# Altium footprint library Connector_Harting.PcbLib: 33 footprints (part 2 of 3)
Each footprint in its own frame and in the unit in brackets; x right, y up, seen from the top. Pads: shape width x height; smd on the part's side, far side on the other; paste and mask are expansions set on the pad; w line width, h text height; cw(c..) or ccw(c..) is an arc to the next point about the centre after c.
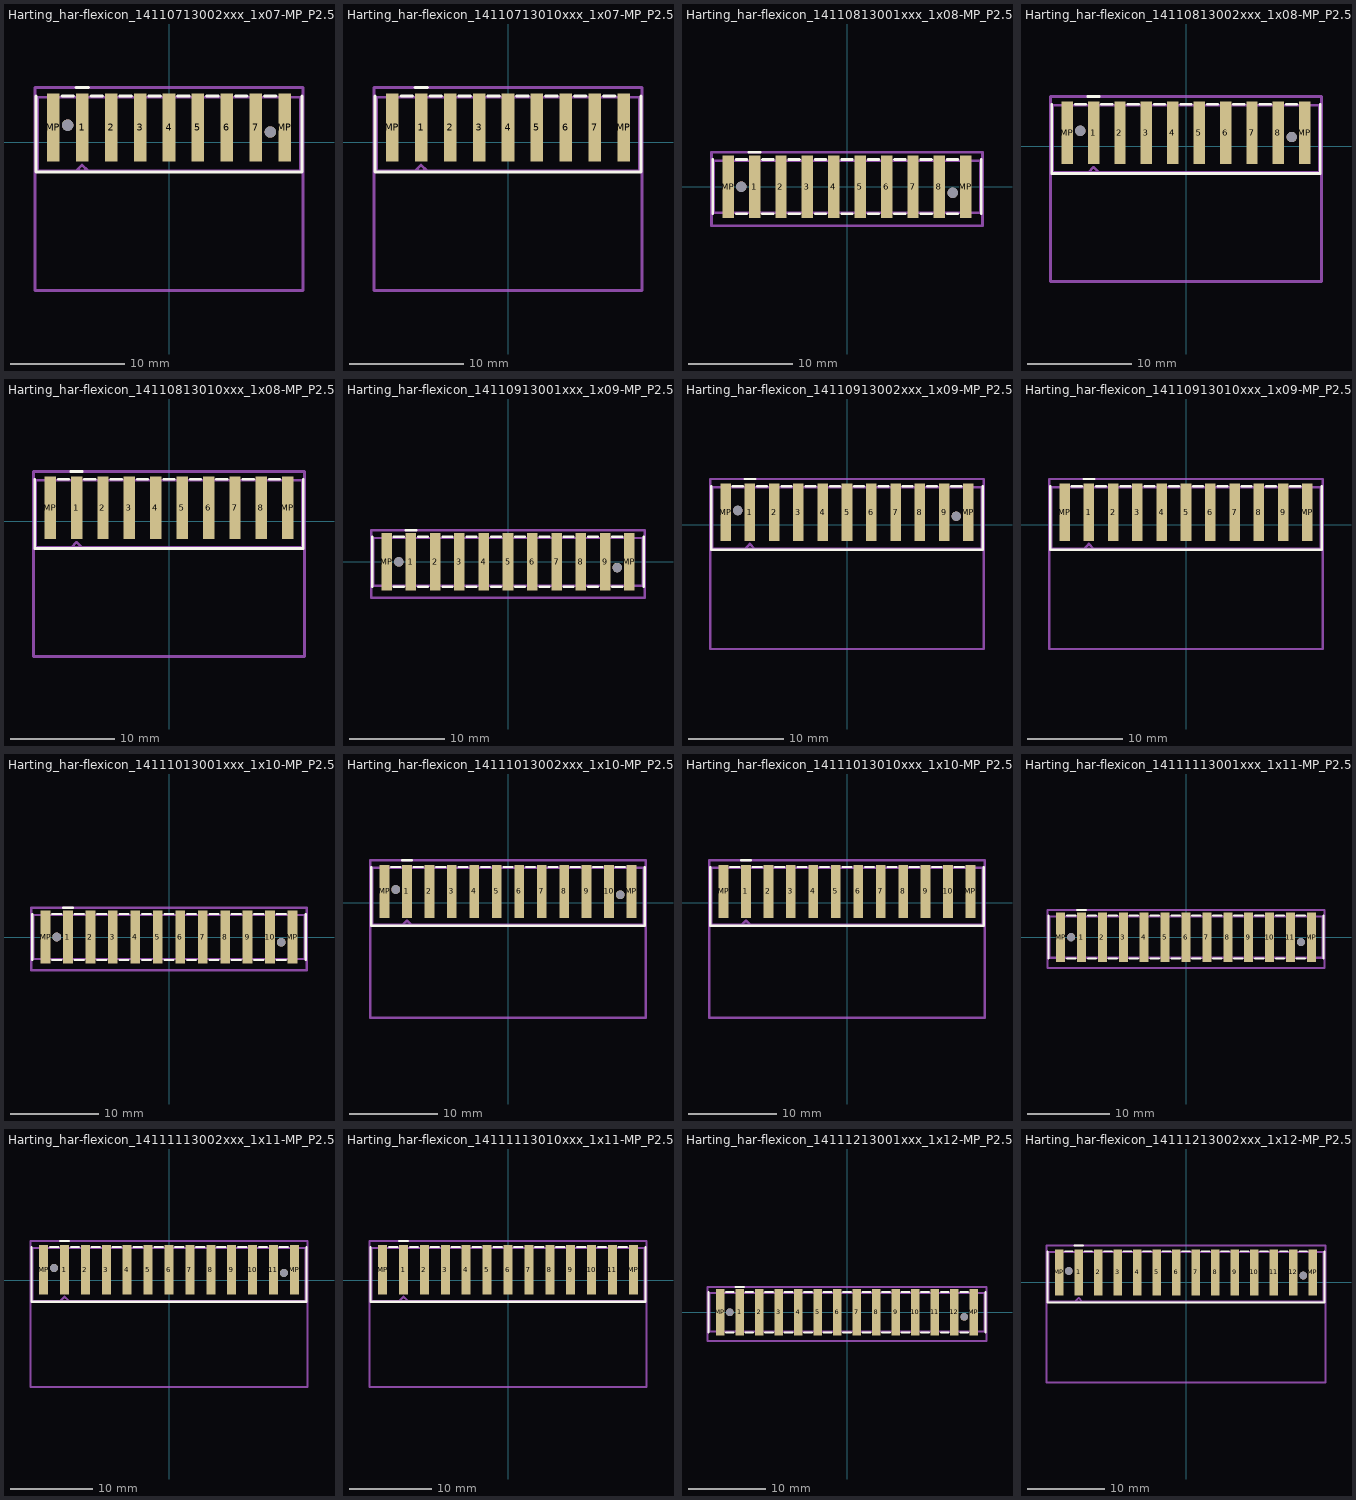
[diagram p1: the footprints below, top view; thin cyan lines are the x and y axes]

## Harting_har-flexicon_14110713002xxx_1x07-MP_P2.54mm_Horizontal [mm]
pads (11):
  rect 1.1x6 smd: 1(-7.62,1.3) 2(-5.08,1.3) 3(-2.54,1.3) 4(0,1.3) 5(2.54,1.3) 6(5.08,1.3) 7(7.62,1.3) MP(-10.16,1.3) MP(10.16,1.3)
  round 1 hole 1: Un1(-8.89,1.5) Un2(8.89,0.9)
F.SilkS:
  lines w0.254: -11.655,4.06 -11.655,-2.61 11.655,-2.61 11.655,4.06 ; -9.398,4.06 -8.382,4.06 ; -8.17,4.8 -7.07,4.8 ; -6.858,4.06 -5.842,4.06 ; -4.318,4.06 -3.302,4.06 ; -1.778,4.06 -0.762,4.06 ; 0.762,4.06 1.778,4.06 ; 3.302,4.06 4.318,4.06 ; 5.842,4.06 6.858,4.06 ; 8.382,4.06 9.398,4.06
Top Assembly:
  lines w0.254: -8.12,-2.5 -7.62,-2 -7.12,-2.5 ; -11.545,-2.5 11.545,-2.5 11.545,3.95 -11.545,3.95 -11.545,-2.5
  text "'.Designator'" at -4.047,0.46 h1
Top Courtyard:
  lines w0.254: -11.77,-13 11.77,-13 11.77,4.8 -11.77,4.8 -11.77,-13
Top Designator:
  text ".Designator" at -7.618,-4.608 h1.52

## Harting_har-flexicon_14110713010xxx_1x07-MP_P2.54mm_Horizontal [mm]
pads (9):
  rect 1.1x6 smd: 1(-7.62,1.3) 2(-5.08,1.3) 3(-2.54,1.3) 4(0,1.3) 5(2.54,1.3) 6(5.08,1.3) 7(7.62,1.3) MP(-10.16,1.3) MP(10.16,1.3)
F.SilkS:
  lines w0.254: -11.655,4.06 -11.655,-2.61 11.655,-2.61 11.655,4.06 ; -9.398,4.06 -8.382,4.06 ; -8.17,4.8 -7.07,4.8 ; -6.858,4.06 -5.842,4.06 ; -4.318,4.06 -3.302,4.06 ; -1.778,4.06 -0.762,4.06 ; 0.762,4.06 1.778,4.06 ; 3.302,4.06 4.318,4.06 ; 5.842,4.06 6.858,4.06 ; 8.382,4.06 9.398,4.06
Top Assembly:
  lines w0.254: -8.12,-2.5 -7.62,-2 -7.12,-2.5 ; -11.545,-2.5 11.545,-2.5 11.545,3.95 -11.545,3.95 -11.545,-2.5
  text "'.Designator'" at -4.047,0.46 h1
Top Courtyard:
  lines w0.254: -11.77,-13 11.77,-13 11.77,4.8 -11.77,4.8 -11.77,-13
Top Designator:
  text ".Designator" at -7.618,-4.608 h1.52

## Harting_har-flexicon_14110813001xxx_1x08-MP_P2.54mm_Vertical [mm]
pads (12):
  rect 1.1x6 smd: 1(-8.89,0) 2(-6.35,0) 3(-3.81,0) 4(-1.27,0) 5(1.27,0) 6(3.81,0) 7(6.35,0) 8(8.89,0) MP(-11.43,0) MP(11.43,0)
  round 1 hole 1: Un1(-10.16,0) Un2(10.16,-0.6)
F.SilkS:
  lines w0.254: -12.925,-2.61 -12.925,2.61 ; -10.668,-2.61 -9.652,-2.61 ; -10.668,2.61 -9.652,2.61 ; -9.44,3.3 -8.34,3.3 ; -8.128,-2.61 -7.112,-2.61 ; -8.128,2.61 -7.112,2.61 ; -5.588,-2.61 -4.572,-2.61 ; -5.588,2.61 -4.572,2.61 ; -3.048,-2.61 -2.032,-2.61 ; -3.048,2.61 -2.032,2.61 ; -0.508,-2.61 0.508,-2.61 ; -0.508,2.61 0.508,2.61 ; 2.032,-2.61 3.048,-2.61 ; 2.032,2.61 3.048,2.61 ; 4.572,-2.61 5.588,-2.61 ; 4.572,2.61 5.588,2.61 ; 7.112,-2.61 8.128,-2.61 ; 7.112,2.61 8.128,2.61 ; 9.652,-2.61 10.668,-2.61 ; 9.652,2.61 10.668,2.61 ; 12.925,-2.61 12.925,2.61
Top Assembly:
  lines w0.254: -9.39,-2.5 -8.89,-2 -8.39,-2.5 ; -12.815,-2.5 12.815,-2.5 12.815,2.5 -12.815,2.5 -12.815,-2.5
  text "'.Designator'" at -4.047,-0.84 h1
Top Courtyard:
  lines w0.254: -13.04,-3.75 13.04,-3.75 13.04,3.3 -13.04,3.3 -13.04,-3.75
Top Designator:
  text ".Designator" at -7.618,-0.733 h1.52

## Harting_har-flexicon_14110813002xxx_1x08-MP_P2.54mm_Horizontal [mm]
pads (12):
  rect 1.1x6 smd: 1(-8.89,1.3) 2(-6.35,1.3) 3(-3.81,1.3) 4(-1.27,1.3) 5(1.27,1.3) 6(3.81,1.3) 7(6.35,1.3) 8(8.89,1.3) MP(-11.43,1.3) MP(11.43,1.3)
  round 1 hole 1: Un1(-10.16,1.5) Un2(10.16,0.9)
F.SilkS:
  lines w0.254: -12.925,4.06 -12.925,-2.61 12.925,-2.61 12.925,4.06 ; -10.668,4.06 -9.652,4.06 ; -9.44,4.8 -8.34,4.8 ; -8.128,4.06 -7.112,4.06 ; -5.588,4.06 -4.572,4.06 ; -3.048,4.06 -2.032,4.06 ; -0.508,4.06 0.508,4.06 ; 2.032,4.06 3.048,4.06 ; 4.572,4.06 5.588,4.06 ; 7.112,4.06 8.128,4.06 ; 9.652,4.06 10.668,4.06
Top Assembly:
  lines w0.254: -9.39,-2.5 -8.89,-2 -8.39,-2.5 ; -12.815,-2.5 12.815,-2.5 12.815,3.95 -12.815,3.95 -12.815,-2.5
  text "'.Designator'" at -4.047,0.46 h1
Top Courtyard:
  lines w0.254: -13.04,-13 13.04,-13 13.04,4.8 -13.04,4.8 -13.04,-13
Top Designator:
  text ".Designator" at -7.618,-4.608 h1.52

## Harting_har-flexicon_14110813010xxx_1x08-MP_P2.54mm_Horizontal [mm]
pads (10):
  rect 1.1x6 smd: 1(-8.89,1.3) 2(-6.35,1.3) 3(-3.81,1.3) 4(-1.27,1.3) 5(1.27,1.3) 6(3.81,1.3) 7(6.35,1.3) 8(8.89,1.3) MP(-11.43,1.3) MP(11.43,1.3)
F.SilkS:
  lines w0.254: -12.925,4.06 -12.925,-2.61 12.925,-2.61 12.925,4.06 ; -10.668,4.06 -9.652,4.06 ; -9.44,4.8 -8.34,4.8 ; -8.128,4.06 -7.112,4.06 ; -5.588,4.06 -4.572,4.06 ; -3.048,4.06 -2.032,4.06 ; -0.508,4.06 0.508,4.06 ; 2.032,4.06 3.048,4.06 ; 4.572,4.06 5.588,4.06 ; 7.112,4.06 8.128,4.06 ; 9.652,4.06 10.668,4.06
Top Assembly:
  lines w0.254: -9.39,-2.5 -8.89,-2 -8.39,-2.5 ; -12.815,-2.5 12.815,-2.5 12.815,3.95 -12.815,3.95 -12.815,-2.5
  text "'.Designator'" at -4.047,0.46 h1
Top Courtyard:
  lines w0.254: -13.04,-13 13.04,-13 13.04,4.8 -13.04,4.8 -13.04,-13
Top Designator:
  text ".Designator" at -7.618,-4.608 h1.52

## Harting_har-flexicon_14110913001xxx_1x09-MP_P2.54mm_Vertical [mm]
pads (13):
  rect 1.1x6 smd: 1(-10.16,0) 2(-7.62,0) 3(-5.08,0) 4(-2.54,0) 5(0,0) 6(2.54,0) 7(5.08,0) 8(7.62,0) 9(10.16,0) MP(-12.7,0) MP(12.7,0)
  round 1 hole 1: Un1(-11.43,0) Un2(11.43,-0.6)
F.SilkS:
  lines w0.254: -14.195,-2.61 -14.195,2.61 ; -11.938,-2.61 -10.922,-2.61 ; -11.938,2.61 -10.922,2.61 ; -10.71,3.3 -9.61,3.3 ; -9.398,-2.61 -8.382,-2.61 ; -9.398,2.61 -8.382,2.61 ; -6.858,-2.61 -5.842,-2.61 ; -6.858,2.61 -5.842,2.61 ; -4.318,-2.61 -3.302,-2.61 ; -4.318,2.61 -3.302,2.61 ; -1.778,-2.61 -0.762,-2.61 ; -1.778,2.61 -0.762,2.61 ; 0.762,-2.61 1.778,-2.61 ; 0.762,2.61 1.778,2.61 ; 3.302,-2.61 4.318,-2.61 ; 3.302,2.61 4.318,2.61 ; 5.842,-2.61 6.858,-2.61 ; 5.842,2.61 6.858,2.61 ; 8.382,-2.61 9.398,-2.61 ; 8.382,2.61 9.398,2.61 ; 10.922,-2.61 11.938,-2.61 ; 10.922,2.61 11.938,2.61 ; 14.195,-2.61 14.195,2.61
Top Assembly:
  lines w0.254: -10.66,-2.5 -10.16,-2 -9.66,-2.5 ; -14.085,-2.5 14.085,-2.5 14.085,2.5 -14.085,2.5 -14.085,-2.5
  text "'.Designator'" at -4.047,-0.84 h1
Top Courtyard:
  lines w0.254: -14.31,-3.75 14.31,-3.75 14.31,3.3 -14.31,3.3 -14.31,-3.75
Top Designator:
  text ".Designator" at -7.618,-0.733 h1.52

## Harting_har-flexicon_14110913002xxx_1x09-MP_P2.54mm_Horizontal [mm]
pads (13):
  rect 1.1x6 smd: 1(-10.16,1.3) 2(-7.62,1.3) 3(-5.08,1.3) 4(-2.54,1.3) 5(0,1.3) 6(2.54,1.3) 7(5.08,1.3) 8(7.62,1.3) 9(10.16,1.3) MP(-12.7,1.3) MP(12.7,1.3)
  round 1 hole 1: Un1(-11.43,1.5) Un2(11.43,0.9)
F.SilkS:
  lines w0.254: -14.195,4.06 -14.195,-2.61 14.195,-2.61 14.195,4.06 ; -11.938,4.06 -10.922,4.06 ; -10.71,4.8 -9.61,4.8 ; -9.398,4.06 -8.382,4.06 ; -6.858,4.06 -5.842,4.06 ; -4.318,4.06 -3.302,4.06 ; -1.778,4.06 -0.762,4.06 ; 0.762,4.06 1.778,4.06 ; 3.302,4.06 4.318,4.06 ; 5.842,4.06 6.858,4.06 ; 8.382,4.06 9.398,4.06 ; 10.922,4.06 11.938,4.06
Top Assembly:
  lines w0.254: -10.66,-2.5 -10.16,-2 -9.66,-2.5 ; -14.085,-2.5 14.085,-2.5 14.085,3.95 -14.085,3.95 -14.085,-2.5
  text "'.Designator'" at -4.047,0.46 h1
Top Courtyard:
  lines w0.254: -14.31,-13 14.31,-13 14.31,4.8 -14.31,4.8 -14.31,-13
Top Designator:
  text ".Designator" at -7.618,-4.608 h1.52

## Harting_har-flexicon_14110913010xxx_1x09-MP_P2.54mm_Horizontal [mm]
pads (11):
  rect 1.1x6 smd: 1(-10.16,1.3) 2(-7.62,1.3) 3(-5.08,1.3) 4(-2.54,1.3) 5(0,1.3) 6(2.54,1.3) 7(5.08,1.3) 8(7.62,1.3) 9(10.16,1.3) MP(-12.7,1.3) MP(12.7,1.3)
F.SilkS:
  lines w0.254: -14.195,4.06 -14.195,-2.61 14.195,-2.61 14.195,4.06 ; -11.938,4.06 -10.922,4.06 ; -10.71,4.8 -9.61,4.8 ; -9.398,4.06 -8.382,4.06 ; -6.858,4.06 -5.842,4.06 ; -4.318,4.06 -3.302,4.06 ; -1.778,4.06 -0.762,4.06 ; 0.762,4.06 1.778,4.06 ; 3.302,4.06 4.318,4.06 ; 5.842,4.06 6.858,4.06 ; 8.382,4.06 9.398,4.06 ; 10.922,4.06 11.938,4.06
Top Assembly:
  lines w0.254: -10.66,-2.5 -10.16,-2 -9.66,-2.5 ; -14.085,-2.5 14.085,-2.5 14.085,3.95 -14.085,3.95 -14.085,-2.5
  text "'.Designator'" at -4.047,0.46 h1
Top Courtyard:
  lines w0.254: -14.31,-13 14.31,-13 14.31,4.8 -14.31,4.8 -14.31,-13
Top Designator:
  text ".Designator" at -7.618,-4.608 h1.52

## Harting_har-flexicon_14111013001xxx_1x10-MP_P2.54mm_Vertical [mm]
pads (14):
  rect 1.1x6 smd: 1(-11.43,0) 2(-8.89,0) 3(-6.35,0) 4(-3.81,0) 5(-1.27,0) 6(1.27,0) 7(3.81,0) 8(6.35,0) 9(8.89,0) 10(11.43,0) MP(-13.97,0) MP(13.97,0)
  round 1 hole 1: Un1(-12.7,0) Un2(12.7,-0.6)
F.SilkS:
  lines w0.254: -15.465,-2.61 -15.465,2.61 ; -13.208,-2.61 -12.192,-2.61 ; -13.208,2.61 -12.192,2.61 ; -11.98,3.3 -10.88,3.3 ; -10.668,-2.61 -9.652,-2.61 ; -10.668,2.61 -9.652,2.61 ; -8.128,-2.61 -7.112,-2.61 ; -8.128,2.61 -7.112,2.61 ; -5.588,-2.61 -4.572,-2.61 ; -5.588,2.61 -4.572,2.61 ; -3.048,-2.61 -2.032,-2.61 ; -3.048,2.61 -2.032,2.61 ; -0.508,-2.61 0.508,-2.61 ; -0.508,2.61 0.508,2.61 ; 2.032,-2.61 3.048,-2.61 ; 2.032,2.61 3.048,2.61 ; 4.572,-2.61 5.588,-2.61 ; 4.572,2.61 5.588,2.61 ; 7.112,-2.61 8.128,-2.61 ; 7.112,2.61 8.128,2.61 ; 9.652,-2.61 10.668,-2.61 ; 9.652,2.61 10.668,2.61 ; 12.192,-2.61 13.208,-2.61 ; 12.192,2.61 13.208,2.61 ; 15.465,-2.61 15.465,2.61
Top Assembly:
  lines w0.254: -11.93,-2.5 -11.43,-2 -10.93,-2.5 ; -15.355,-2.5 15.355,-2.5 15.355,2.5 -15.355,2.5 -15.355,-2.5
  text "'.Designator'" at -4.047,-0.84 h1
Top Courtyard:
  lines w0.254: -15.58,-3.75 15.58,-3.75 15.58,3.3 -15.58,3.3 -15.58,-3.75
Top Designator:
  text ".Designator" at -7.618,-0.733 h1.52

## Harting_har-flexicon_14111013002xxx_1x10-MP_P2.54mm_Horizontal [mm]
pads (14):
  rect 1.1x6 smd: 1(-11.43,1.3) 2(-8.89,1.3) 3(-6.35,1.3) 4(-3.81,1.3) 5(-1.27,1.3) 6(1.27,1.3) 7(3.81,1.3) 8(6.35,1.3) 9(8.89,1.3) 10(11.43,1.3) MP(-13.97,1.3) MP(13.97,1.3)
  round 1 hole 1: Un1(-12.7,1.5) Un2(12.7,0.9)
F.SilkS:
  lines w0.254: -15.465,4.06 -15.465,-2.61 15.465,-2.61 15.465,4.06 ; -13.208,4.06 -12.192,4.06 ; -11.98,4.8 -10.88,4.8 ; -10.668,4.06 -9.652,4.06 ; -8.128,4.06 -7.112,4.06 ; -5.588,4.06 -4.572,4.06 ; -3.048,4.06 -2.032,4.06 ; -0.508,4.06 0.508,4.06 ; 2.032,4.06 3.048,4.06 ; 4.572,4.06 5.588,4.06 ; 7.112,4.06 8.128,4.06 ; 9.652,4.06 10.668,4.06 ; 12.192,4.06 13.208,4.06
Top Assembly:
  lines w0.254: -11.93,-2.5 -11.43,-2 -10.93,-2.5 ; -15.355,-2.5 15.355,-2.5 15.355,3.95 -15.355,3.95 -15.355,-2.5
  text "'.Designator'" at -4.047,0.46 h1
Top Courtyard:
  lines w0.254: -15.58,-13 15.58,-13 15.58,4.8 -15.58,4.8 -15.58,-13
Top Designator:
  text ".Designator" at -7.618,-4.608 h1.52

## Harting_har-flexicon_14111013010xxx_1x10-MP_P2.54mm_Horizontal [mm]
pads (12):
  rect 1.1x6 smd: 1(-11.43,1.3) 2(-8.89,1.3) 3(-6.35,1.3) 4(-3.81,1.3) 5(-1.27,1.3) 6(1.27,1.3) 7(3.81,1.3) 8(6.35,1.3) 9(8.89,1.3) 10(11.43,1.3) MP(-13.97,1.3) MP(13.97,1.3)
F.SilkS:
  lines w0.254: -15.465,4.06 -15.465,-2.61 15.465,-2.61 15.465,4.06 ; -13.208,4.06 -12.192,4.06 ; -11.98,4.8 -10.88,4.8 ; -10.668,4.06 -9.652,4.06 ; -8.128,4.06 -7.112,4.06 ; -5.588,4.06 -4.572,4.06 ; -3.048,4.06 -2.032,4.06 ; -0.508,4.06 0.508,4.06 ; 2.032,4.06 3.048,4.06 ; 4.572,4.06 5.588,4.06 ; 7.112,4.06 8.128,4.06 ; 9.652,4.06 10.668,4.06 ; 12.192,4.06 13.208,4.06
Top Assembly:
  lines w0.254: -11.93,-2.5 -11.43,-2 -10.93,-2.5 ; -15.355,-2.5 15.355,-2.5 15.355,3.95 -15.355,3.95 -15.355,-2.5
  text "'.Designator'" at -4.047,0.46 h1
Top Courtyard:
  lines w0.254: -15.58,-13 15.58,-13 15.58,4.8 -15.58,4.8 -15.58,-13
Top Designator:
  text ".Designator" at -7.618,-4.608 h1.52

## Harting_har-flexicon_14111113001xxx_1x11-MP_P2.54mm_Vertical [mm]
pads (15):
  rect 1.1x6 smd: 1(-12.7,0) 2(-10.16,0) 3(-7.62,0) 4(-5.08,0) 5(-2.54,0) 6(0,0) 7(2.54,0) 8(5.08,0) 9(7.62,0) 10(10.16,0) 11(12.7,0) MP(-15.24,0) MP(15.24,0)
  round 1 hole 1: Un1(-13.97,0) Un2(13.97,-0.6)
F.SilkS:
  lines w0.254: -16.735,-2.61 -16.735,2.61 ; -14.478,-2.61 -13.462,-2.61 ; -14.478,2.61 -13.462,2.61 ; -13.25,3.3 -12.15,3.3 ; -11.938,-2.61 -10.922,-2.61 ; -11.938,2.61 -10.922,2.61 ; -9.398,-2.61 -8.382,-2.61 ; -9.398,2.61 -8.382,2.61 ; -6.858,-2.61 -5.842,-2.61 ; -6.858,2.61 -5.842,2.61 ; -4.318,-2.61 -3.302,-2.61 ; -4.318,2.61 -3.302,2.61 ; -1.778,-2.61 -0.762,-2.61 ; -1.778,2.61 -0.762,2.61 ; 0.762,-2.61 1.778,-2.61 ; 0.762,2.61 1.778,2.61 ; 3.302,-2.61 4.318,-2.61 ; 3.302,2.61 4.318,2.61 ; 5.842,-2.61 6.858,-2.61 ; 5.842,2.61 6.858,2.61 ; 8.382,-2.61 9.398,-2.61 ; 8.382,2.61 9.398,2.61 ; 10.922,-2.61 11.938,-2.61 ; 10.922,2.61 11.938,2.61 ; 13.462,-2.61 14.478,-2.61 ; 13.462,2.61 14.478,2.61 ; 16.735,-2.61 16.735,2.61
Top Assembly:
  lines w0.254: -13.2,-2.5 -12.7,-2 -12.2,-2.5 ; -16.625,-2.5 16.625,-2.5 16.625,2.5 -16.625,2.5 -16.625,-2.5
  text "'.Designator'" at -4.047,-0.84 h1
Top Courtyard:
  lines w0.254: -16.85,-3.75 16.85,-3.75 16.85,3.3 -16.85,3.3 -16.85,-3.75
Top Designator:
  text ".Designator" at -7.618,-0.733 h1.52

## Harting_har-flexicon_14111113002xxx_1x11-MP_P2.54mm_Horizontal [mm]
pads (15):
  rect 1.1x6 smd: 1(-12.7,1.3) 2(-10.16,1.3) 3(-7.62,1.3) 4(-5.08,1.3) 5(-2.54,1.3) 6(0,1.3) 7(2.54,1.3) 8(5.08,1.3) 9(7.62,1.3) 10(10.16,1.3) 11(12.7,1.3) MP(-15.24,1.3) MP(15.24,1.3)
  round 1 hole 1: Un1(-13.97,1.5) Un2(13.97,0.9)
F.SilkS:
  lines w0.254: -16.735,4.06 -16.735,-2.61 16.735,-2.61 16.735,4.06 ; -14.478,4.06 -13.462,4.06 ; -13.25,4.8 -12.15,4.8 ; -11.938,4.06 -10.922,4.06 ; -9.398,4.06 -8.382,4.06 ; -6.858,4.06 -5.842,4.06 ; -4.318,4.06 -3.302,4.06 ; -1.778,4.06 -0.762,4.06 ; 0.762,4.06 1.778,4.06 ; 3.302,4.06 4.318,4.06 ; 5.842,4.06 6.858,4.06 ; 8.382,4.06 9.398,4.06 ; 10.922,4.06 11.938,4.06 ; 13.462,4.06 14.478,4.06
Top Assembly:
  lines w0.254: -13.2,-2.5 -12.7,-2 -12.2,-2.5 ; -16.625,-2.5 16.625,-2.5 16.625,3.95 -16.625,3.95 -16.625,-2.5
  text "'.Designator'" at -4.047,0.46 h1
Top Courtyard:
  lines w0.254: -16.85,-13 16.85,-13 16.85,4.8 -16.85,4.8 -16.85,-13
Top Designator:
  text ".Designator" at -7.618,-4.608 h1.52

## Harting_har-flexicon_14111113010xxx_1x11-MP_P2.54mm_Horizontal [mm]
pads (13):
  rect 1.1x6 smd: 1(-12.7,1.3) 2(-10.16,1.3) 3(-7.62,1.3) 4(-5.08,1.3) 5(-2.54,1.3) 6(0,1.3) 7(2.54,1.3) 8(5.08,1.3) 9(7.62,1.3) 10(10.16,1.3) 11(12.7,1.3) MP(-15.24,1.3) MP(15.24,1.3)
F.SilkS:
  lines w0.254: -16.735,4.06 -16.735,-2.61 16.735,-2.61 16.735,4.06 ; -14.478,4.06 -13.462,4.06 ; -13.25,4.8 -12.15,4.8 ; -11.938,4.06 -10.922,4.06 ; -9.398,4.06 -8.382,4.06 ; -6.858,4.06 -5.842,4.06 ; -4.318,4.06 -3.302,4.06 ; -1.778,4.06 -0.762,4.06 ; 0.762,4.06 1.778,4.06 ; 3.302,4.06 4.318,4.06 ; 5.842,4.06 6.858,4.06 ; 8.382,4.06 9.398,4.06 ; 10.922,4.06 11.938,4.06 ; 13.462,4.06 14.478,4.06
Top Assembly:
  lines w0.254: -13.2,-2.5 -12.7,-2 -12.2,-2.5 ; -16.625,-2.5 16.625,-2.5 16.625,3.95 -16.625,3.95 -16.625,-2.5
  text "'.Designator'" at -4.047,0.46 h1
Top Courtyard:
  lines w0.254: -16.85,-13 16.85,-13 16.85,4.8 -16.85,4.8 -16.85,-13
Top Designator:
  text ".Designator" at -7.618,-4.608 h1.52

## Harting_har-flexicon_14111213001xxx_1x12-MP_P2.54mm_Vertical [mm]
pads (16):
  rect 1.1x6 smd: 1(-13.97,0) 2(-11.43,0) 3(-8.89,0) 4(-6.35,0) 5(-3.81,0) 6(-1.27,0) 7(1.27,0) 8(3.81,0) 9(6.35,0) 10(8.89,0) 11(11.43,0) 12(13.97,0) MP(-16.51,0) MP(16.51,0)
  round 1 hole 1: Un1(-15.24,0) Un2(15.24,-0.6)
F.SilkS:
  lines w0.254: -18.005,-2.61 -18.005,2.61 ; -15.748,-2.61 -14.732,-2.61 ; -15.748,2.61 -14.732,2.61 ; -14.52,3.3 -13.42,3.3 ; -13.208,-2.61 -12.192,-2.61 ; -13.208,2.61 -12.192,2.61 ; -10.668,-2.61 -9.652,-2.61 ; -10.668,2.61 -9.652,2.61 ; -8.128,-2.61 -7.112,-2.61 ; -8.128,2.61 -7.112,2.61 ; -5.588,-2.61 -4.572,-2.61 ; -5.588,2.61 -4.572,2.61 ; -3.048,-2.61 -2.032,-2.61 ; -3.048,2.61 -2.032,2.61 ; -0.508,-2.61 0.508,-2.61 ; -0.508,2.61 0.508,2.61 ; 2.032,-2.61 3.048,-2.61 ; 2.032,2.61 3.048,2.61 ; 4.572,-2.61 5.588,-2.61 ; 4.572,2.61 5.588,2.61 ; 7.112,-2.61 8.128,-2.61 ; 7.112,2.61 8.128,2.61 ; 9.652,-2.61 10.668,-2.61 ; 9.652,2.61 10.668,2.61 ; 12.192,-2.61 13.208,-2.61 ; 12.192,2.61 13.208,2.61 ; 14.732,-2.61 15.748,-2.61 ; 14.732,2.61 15.748,2.61 ; 18.005,-2.61 18.005,2.61
Top Assembly:
  lines w0.254: -14.47,-2.5 -13.97,-2 -13.47,-2.5 ; -17.895,-2.5 17.895,-2.5 17.895,2.5 -17.895,2.5 -17.895,-2.5
  text "'.Designator'" at -4.047,-0.84 h1
Top Courtyard:
  lines w0.254: -18.12,-3.75 18.12,-3.75 18.12,3.3 -18.12,3.3 -18.12,-3.75
Top Designator:
  text ".Designator" at -7.618,-0.733 h1.52

## Harting_har-flexicon_14111213002xxx_1x12-MP_P2.54mm_Horizontal [mm]
pads (16):
  rect 1.1x6 smd: 1(-13.97,1.3) 2(-11.43,1.3) 3(-8.89,1.3) 4(-6.35,1.3) 5(-3.81,1.3) 6(-1.27,1.3) 7(1.27,1.3) 8(3.81,1.3) 9(6.35,1.3) 10(8.89,1.3) 11(11.43,1.3) 12(13.97,1.3) MP(-16.51,1.3) MP(16.51,1.3)
  round 1 hole 1: Un1(-15.24,1.5) Un2(15.24,0.9)
F.SilkS:
  lines w0.254: -18.005,4.06 -18.005,-2.61 18.005,-2.61 18.005,4.06 ; -15.748,4.06 -14.732,4.06 ; -14.52,4.8 -13.42,4.8 ; -13.208,4.06 -12.192,4.06 ; -10.668,4.06 -9.652,4.06 ; -8.128,4.06 -7.112,4.06 ; -5.588,4.06 -4.572,4.06 ; -3.048,4.06 -2.032,4.06 ; -0.508,4.06 0.508,4.06 ; 2.032,4.06 3.048,4.06 ; 4.572,4.06 5.588,4.06 ; 7.112,4.06 8.128,4.06 ; 9.652,4.06 10.668,4.06 ; 12.192,4.06 13.208,4.06 ; 14.732,4.06 15.748,4.06
Top Assembly:
  lines w0.254: -14.47,-2.5 -13.97,-2 -13.47,-2.5 ; -17.895,-2.5 17.895,-2.5 17.895,3.95 -17.895,3.95 -17.895,-2.5
  text "'.Designator'" at -4.047,0.46 h1
Top Courtyard:
  lines w0.254: -18.12,-13 18.12,-13 18.12,4.8 -18.12,4.8 -18.12,-13
Top Designator:
  text ".Designator" at -7.618,-4.608 h1.52